# Altium footprint library DFN-6(3.0X3.0).PcbLib: 1 footprints
Each footprint in its own frame and in the unit in brackets; x right, y up, seen from the top. Pads: shape width x height; smd on the part's side, far side on the other; paste and mask are expansions set on the pad; w line width, h text height; cw(c..) or ccw(c..) is an arc to the next point about the centre after c.
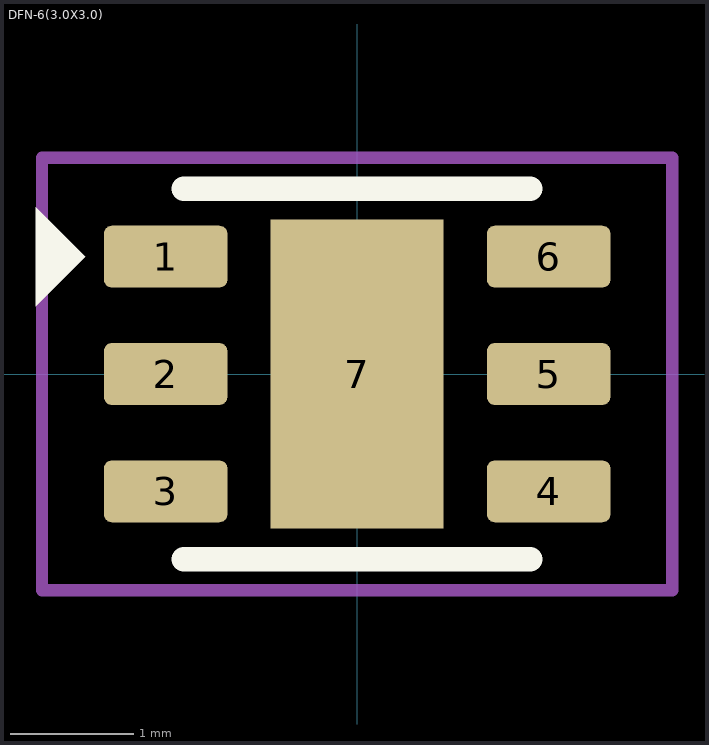
[diagram p0: the footprint, top view; thin cyan lines are the x and y axes]

## DFN-6(3.0X3.0) [mm]
pads (7):
  rrect25% 1x0.5 smd: 1(-1.55,0.95) 2(-1.55,0) 3(-1.55,-0.95) 4(1.55,-0.95) 5(1.55,0) 6(1.55,0.95)
  rect 1.4x2.5 smd: 7(0,0)
Top Overlay:
  region: -2.6,0.55 -2.6,1.35 -2.2,0.95
  lines w0.2: -1.4,-1.5 1.4,-1.5 ; -1.4,1.5 1.4,1.5
Top Courtyard:
  lines w0.1: -2.55,-1.75 2.55,-1.75 2.55,1.75 -2.55,1.75 -2.55,-1.75
3D body "step_temp.STEP": height 0.99, standoff -0.01, extent -1.5,-1.5 1.5,1.5